# EAGLE library part ET-5MS-OEM (library DSDEagleLibrary)
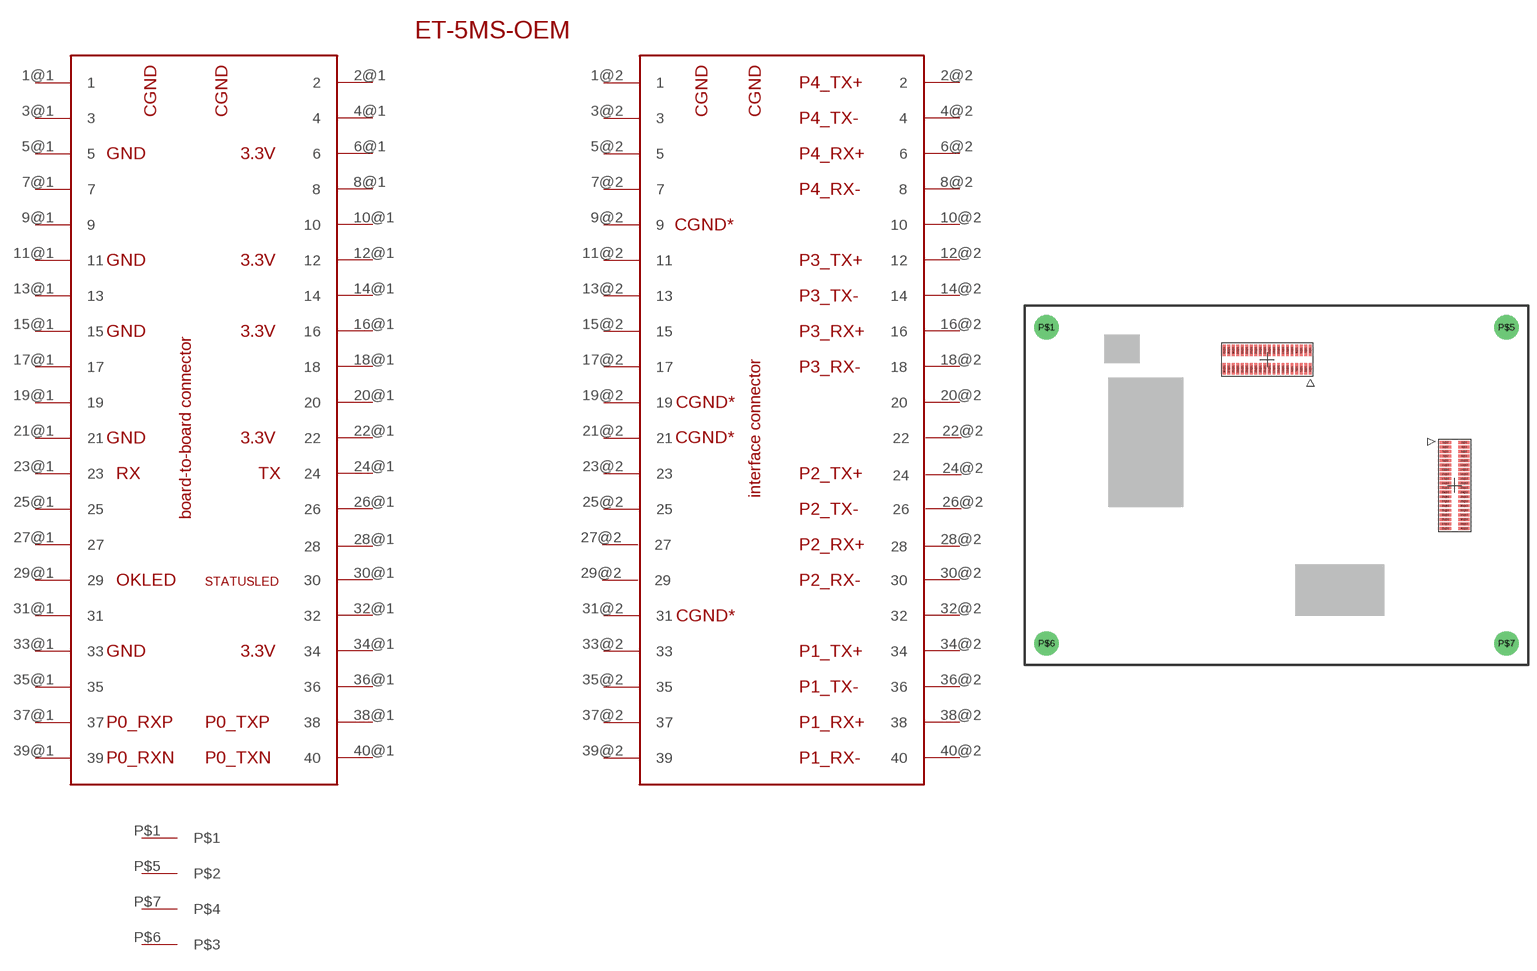
[diagram p44: symbol with the pads of ET-5MS-OEM-2-1; footprint ET-5MS-OEM-2-1]

Designator prefix -

## ET-5MS-OEM  [ET-5MS-OEM-2-1]
1@1  1
1@2  1
2@1  2
2@2  2
3@1  3
3@2  3
4@1  4
4@2  4
5@1  5
5@2  5
6@1  6
6@2  6
7@1  7
7@2  7
8@1  8
8@2  8
9@1  9
9@2  9
10@1  10
10@2  10
11@1  11
11@2  11
12@1  12
12@2  12
13@1  13
13@2  13
14@1  14
14@2  14
15@1  15
15@2  15
16@1  16
16@2  16
17@1  17
17@2  17
18@1  18
18@2  18
19@1  19
19@2  19
20@1  20
20@2  20
21@1  21
21@2  21
22@1  22
22@2  22
23@1  23
23@2  23
24@1  24
24@2  24
25@1  25
25@2  25
26@1  26
26@2  26
27@1  27
27@2  27
28@1  28
28@2  28
29@1  29
29@2  29
30@1  30
30@2  30
31@1  31
31@2  31
32@1  32
32@2  32
33@1  33
33@2  33
34@1  34
34@2  34
35@1  35
35@2  35
36@1  36
36@2  36
37@1  37
37@2  37
38@1  38
38@2  38
39@1  39
39@2  39
40@1  40
40@2  40
P$1  P$1
P$5  P$2
P$6  P$3
P$7  P$4

## Footprint ET-5MS-OEM-2-1 (pad centres in mm)
SAMTECH CONNECTOR USED IS FTE-120-01-G-DV-A
smd 0.508 x 2.032: 1@1 50.4,52.324; 2@1 50.4,55.626; 3@1 49.6,52.324; 4@1 49.6,55.626; 5@1 48.8,52.324; 6@1 48.8,55.626; 7@1 48,52.324; 8@1 48,55.626; 9@1 47.2,52.324; 10@1 47.2,55.626; 11@1 46.399,52.324; 12@1 46.399,55.626; 13@1 45.599,52.324; 14@1 45.599,55.626; 15@1 44.799,52.324; 16@1 44.799,55.626; 17@1 43.999,52.324; 18@1 43.999,55.626; 19@1 43.199,52.324; 20@1 43.199,55.626; 21@1 42.399,52.324; 22@1 42.399,55.626; 23@1 41.599,52.324; 24@1 41.599,55.626; 25@1 40.799,52.324; 26@1 40.799,55.626; 27@1 39.999,52.324; 28@1 39.999,55.626; 29@1 39.199,52.324; 30@1 39.199,55.626; 31@1 38.398,52.324; 32@1 38.398,55.626; 33@1 37.598,52.324; 34@1 37.598,55.626; 35@1 36.798,52.324; 36@1 36.798,55.626; 37@1 35.998,52.324; 38@1 35.998,55.626; 39@1 35.198,52.324; 40@1 35.198,55.626
smd 2.032 x 0.508: 1@2 74.295,39.351; 2@2 77.597,39.351; 3@2 74.295,38.551; 4@2 77.597,38.551; 5@2 74.295,37.751; 6@2 77.597,37.751; 7@2 74.295,36.951; 8@2 77.597,36.951; 9@2 74.295,36.151; 10@2 77.597,36.151; 11@2 74.295,35.35; 12@2 77.597,35.35; 13@2 74.295,34.55; 14@2 77.597,34.55; 15@2 74.295,33.75; 16@2 77.597,33.75; 17@2 74.295,32.95; 18@2 77.597,32.95; 19@2 74.295,32.15; 20@2 77.597,32.15; 21@2 74.295,31.35; 22@2 77.597,31.35; 23@2 74.295,30.55; 24@2 77.597,30.55; 25@2 74.295,29.75; 26@2 77.597,29.75; 27@2 74.295,28.95; 28@2 77.597,28.95; 29@2 74.295,28.15; 30@2 77.597,28.15; 31@2 74.295,27.349; 32@2 77.597,27.349; 33@2 74.295,26.549; 34@2 77.597,26.549; 35@2 74.295,25.749; 36@2 77.597,25.749; 37@2 74.295,24.949; 38@2 77.597,24.949; 39@2 74.295,24.149; 40@2 77.597,24.149
drill 3.264: P$1 3.81,59.69; P$5 85.09,59.69; P$6 3.81,3.81; P$7 85.09,3.81